# Altium schematic symbol library Schlib1.SchLib: 1 symbol
Pins are listed as number, name and electrical type; pins without a type are passive.

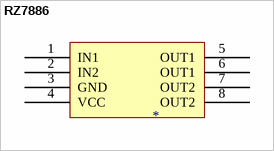
[diagram p0: symbol RZ7886]

## RZ7886
designator ?
pins: 1 IN1, 2 IN2, 3 GND, 4 VCC, 5 OUT1, 6 OUT1, 7 OUT2, 8 OUT2